# Altium footprint library J 继电器.PcbLib: 24 footprints (part 1 of 2)
Each footprint in its own frame and in the unit in brackets; x right, y up, seen from the top. Pads: shape width x height; smd on the part's side, far side on the other; paste and mask are expansions set on the pad; w line width, h text height; cw(c..) or ccw(c..) is an arc to the next point about the centre after c.
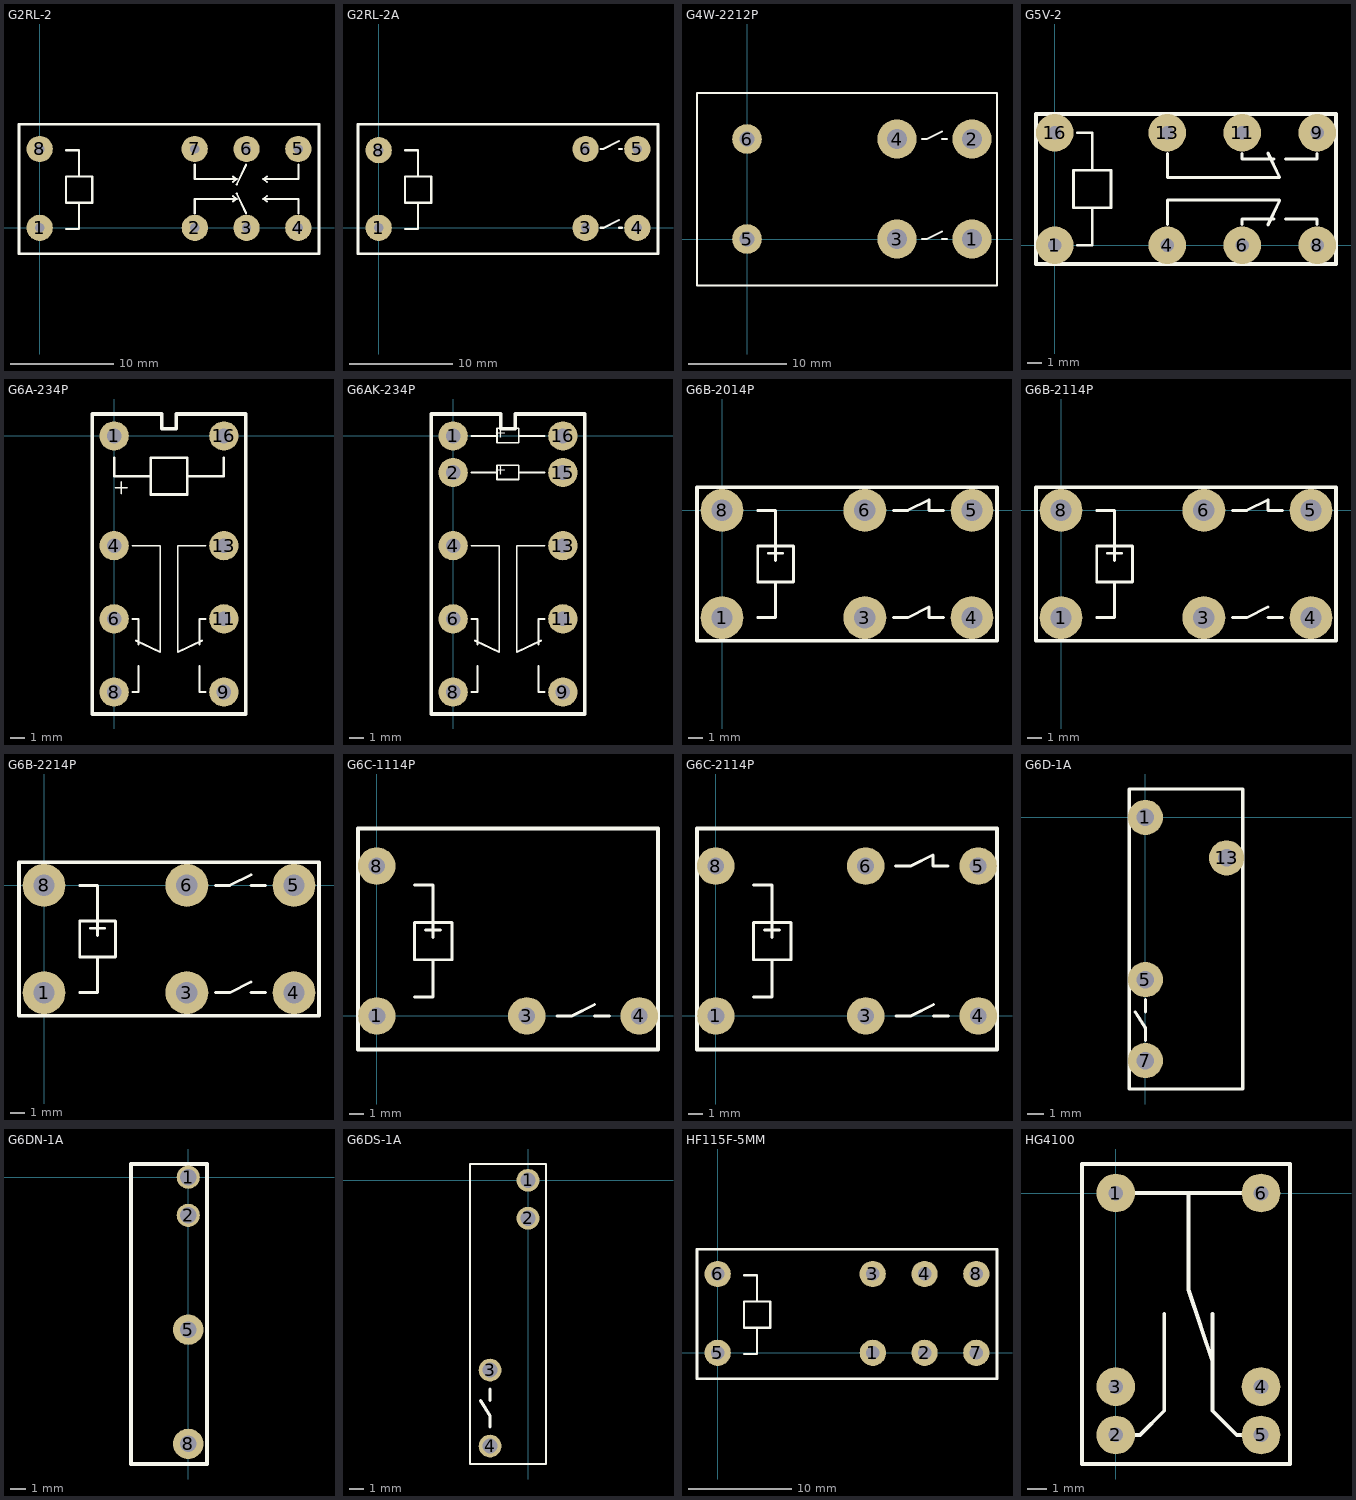
[diagram p0: the footprints below, top view; thin cyan lines are the x and y axes]

## G2RL-2 [mm] "继电器"
height 15.7
pads (8):
  round 2.54 hole 0.9: 1(0,0) 2(15,0) 3(20,0) 4(25,0) 5(25,7.62) 6(20,7.62) 7(14.986,7.62) 8(0,7.62)
Top Overlay:
  lines w0.203: 2.54,-0.12 3.81,-0.12 3.81,2.42 ; 2.54,7.5 3.81,7.5 3.81,4.96 ; 14.986,1.404 14.986,2.801 19.05,2.801 ; 14.986,6.096 14.986,4.699 19.05,4.699 ; 18.669,2.547 19.05,2.801 ; 18.669,3.055 19.05,2.801 ; 18.669,4.445 19.05,4.699 ; 18.669,4.953 19.05,4.699 ; 19.05,3.309 19.939,1.404 ; 19.05,4.191 19.939,6.096 ; 21.971,2.547 21.59,2.801 ; 21.971,3.055 21.59,2.801 ; 21.971,4.445 21.59,4.699 ; 21.971,4.953 21.59,4.699 ; 25.019,1.404 25.019,2.801 21.59,2.801 ; 25.019,6.096 25.019,4.699 21.59,4.699 ; 2.54,2.42 2.54,4.96 5.08,4.96 5.08,2.42 2.54,2.42
  lines w0.254: -2,-2.5 -2,10 27,10 27,-2.5 -2,-2.5
Bottom Overlay:
  lines w0.203: 2.54,-0.12 3.81,-0.12 3.81,2.42 ; 2.54,7.5 3.81,7.5 3.81,4.96 ; 14.986,1.404 14.986,2.801 19.05,2.801 ; 14.986,6.096 14.986,4.699 19.05,4.699 ; 18.669,2.547 19.05,2.801 ; 18.669,3.055 19.05,2.801 ; 18.669,4.445 19.05,4.699 ; 18.669,4.953 19.05,4.699 ; 19.05,3.309 19.939,1.404 ; 19.05,4.191 19.939,6.096 ; 21.971,2.547 21.59,2.801 ; 21.971,3.055 21.59,2.801 ; 21.971,4.445 21.59,4.699 ; 21.971,4.953 21.59,4.699 ; 25.019,1.404 25.019,2.801 21.59,2.801 ; 25.019,6.096 25.019,4.699 21.59,4.699 ; 2.54,2.42 5.08,2.42 5.08,4.96 2.54,4.96 2.54,2.42

## G2RL-2A [mm] "继电器"
height 15.7
pads (6):
  round 2.54 hole 0.9: 1(0,0) 3(20,0) 4(25,0) 5(25,7.62) 6(20,7.62) 8(0,7.5)
Top Overlay:
  lines w0.203: 2.54,-0.12 3.81,-0.12 3.81,2.42 ; 2.54,7.5 3.81,7.5 3.81,4.96 ; 21.463,0 21.717,0 23.241,0.762 ; 21.463,7.62 21.717,7.62 23.241,8.382 ; 23.241,0 23.495,0 ; 23.241,7.62 23.495,7.62 ; 2.54,2.42 2.54,4.96 5.08,4.96 5.08,2.42 2.54,2.42
  lines w0.254: -2,-2.5 27,-2.5 27,10 -2,10 -2,-2.5
Bottom Overlay:
  lines w0.203: 2.54,-0.12 3.81,-0.12 3.81,2.42 ; 2.54,7.5 3.81,7.5 3.81,4.96 ; 21.463,0 21.717,0 23.241,0.762 ; 21.463,7.62 21.717,7.62 23.241,8.382 ; 23.241,0 23.495,0 ; 23.241,7.62 23.495,7.62 ; 2.54,2.42 5.08,2.42 5.08,4.96 2.54,4.96 2.54,2.42

## G4W-2212P [mm] "继电器"
pads (6):
  round 4 hole 2: 1(22.86,0) 2(22.86,10.16) 3(15.24,0) 4(15.24,10.16)
  round 3 hole 1.5: 5(0,0) 6(0,10.16)
Top Overlay:
  lines w0.203: 17.78,0 18.288,0 19.812,0.762 ; 17.78,10.16 18.288,10.16 19.812,10.922 ; 19.812,0 20.32,0 ; 19.812,10.16 20.32,10.16 ; -5.08,-4.699 -5.08,14.859 25.4,14.859 25.4,-4.699 -5.08,-4.699
Bottom Overlay:
  lines w0.203: 17.78,0 18.288,0 19.812,0.762 ; 17.78,10.16 18.288,10.16 19.812,10.922 ; 19.812,0 20.32,0 ; 19.812,10.16 20.32,10.16

## G5V-2 [mil] "继电器"
pads (8):
  round 100 hole 35: 1(0,0) 4(300,0) 6(500,0) 8(700,0) 9(700,300) 11(500,300) 13(300,300) 16(0,300)
Top Overlay:
  lines w7: 60,0 100,0 100,100 ; 60,300 100,300 100,200 ; 50,100 150,100 150,200 50,200 50,100
  lines w8: 300,55.12 300,120 600,120 568.97,54.06 ; 300,244.88 300,180 600,180 568.97,245.94 ; 500,55 500,70 585,70 ; 500,245 500,230 585,230 ; 615,70 700,70 700,55.12 ; 615,230 700,230 700,244.88
  lines w10: -50,-50 750,-50 750,350 -50,350 -50,-50
Bottom Overlay:
  lines w7: 60,0 100,0 100,100 ; 60,300 100,300 100,200 ; 50,100 50,200 150,200 150,100 50,100
  lines w8: 300,55.24 300,120.12 600,120.12 568.97,54.17 ; 300,245 300,180.12 600,180.12 568.97,246.06 ; 500,55.12 500,70.12 585,70.12 ; 500,245.12 500,230.12 585,230.12 ; 615,70.12 700,70.12 700,55.24 ; 615,230.12 700,230.12 700,245

## G6A-234P [mil] "继电器"
pads (8):
  round 80 hole 40: 1(0,0) 4(0,-300) 6(0,-500) 8(0,-700) 9(300,-700) 11(300,-500) 13(300,-300) 16(300,0)
Top Overlay:
  lines w5: 50,-700 66.93,-700 66.93,-629.13 ; 50,-500 66.93,-500 66.93,-570.87 ; 50,-300 125.98,-300 125.98,-590.55 59.06,-559.06 ; 233.07,-629.13 233.07,-700 250,-700 ; 233.07,-570.87 233.07,-500 250,-500 ; 240.94,-559.06 174.02,-590.55 174.02,-300 250,-300 ; 3.94,-141.73 35.43,-141.73 3.94,-141.73 ; 19.68,-157.48 19.68,-125.98 19.68,-157.48
  lines w7: 0,-110 100,-110 0,-110 ; 0,-110 0,-60 0,-110 ; 100,-160 100,-60 ; 100,-160 200,-160 ; 100,-160 100,-60 ; 100,-160 200,-160 ; 100,-60 200,-60 ; 100,-60 200,-60 ; 200,-160 200,-60 ; 200,-160 200,-60 ; 300,-110 200,-110 300,-110 ; 300,-110 300,-60 300,-110
  lines w10: -60,-760 -60,0 -60,60 130,60 130,20 170,20 170,60 360,60 360,-760 -60,-760
Bottom Overlay:
  lines w5: 50,-700 66.93,-700 66.93,-629.13 ; 50,-500 66.93,-500 66.93,-570.87 ; 50,-300 125.98,-300 125.98,-590.55 59.06,-559.06 ; 233.07,-629.13 233.07,-700 250,-700 ; 233.07,-570.87 233.07,-500 250,-500 ; 240.94,-559.06 174.02,-590.55 174.02,-300 250,-300 ; 3.94,-141.73 35.43,-141.73 3.94,-141.73 ; 19.68,-157.48 19.68,-125.98 19.68,-157.48
  lines w7: 0,-110 0,-60 0,-110 ; 0,-110 100,-110 0,-110 ; 100,-160 200,-160 ; 100,-160 100,-60 ; 100,-160 200,-160 ; 100,-160 100,-60 ; 100,-60 200,-60 ; 100,-60 200,-60 ; 200,-160 200,-60 ; 200,-160 200,-60 ; 300,-110 300,-60 300,-110 ; 300,-110 200,-110 300,-110

## G6AK-234P [mil] "继电器"
pads (10):
  round 80 hole 40: 1(0,0) 2(0,-100) 4(0,-300) 6(0,-500) 8(0,-700) 9(300,-700) 11(300,-500) 13(300,-300) 15(300,-100) 16(300,0)
Top Overlay:
  lines w5: 50,-700 66.93,-700 66.93,-629.13 ; 50,-500 66.93,-500 66.93,-570.87 ; 50,-300 125.98,-300 125.98,-590.55 59.06,-559.06 ; 50,-99.69 120.11,-99.69 ; 50,0.32 120.11,0.32 ; 179.17,-99.69 250,-99.69 ; 179.89,0.32 250,0.32 ; 233.07,-629.13 233.07,-700 250,-700 ; 233.07,-570.87 233.07,-500 250,-500 ; 240.94,-559.06 174.02,-590.55 174.02,-300 250,-300 ; 120.11,-119.37 120.11,-80 179.17,-80 179.17,-119.37 120.11,-119.37 ; 120.11,-18.37 179.17,-18.37 179.17,21 120.11,21 120.11,-18.37
  lines w10: -60,-760 360,-760 360,60 170,60 170,20 130,20 130,60 -60,60 -60,0 -60,-760
  text "+" at 146,-115 h50
  text "+" at 146,-14 h50
Bottom Overlay:
  lines w5: 50,-700 66.93,-700 66.93,-629.13 ; 50,-500 66.93,-500 66.93,-570.87 ; 50,-300 125.98,-300 125.98,-590.55 59.06,-559.06 ; 50,-99.69 120.11,-99.69 ; 50,0.32 120.11,0.32 ; 179.17,-99.69 250,-99.69 ; 179.89,0.32 250,0.32 ; 233.07,-629.13 233.07,-700 250,-700 ; 233.07,-570.87 233.07,-500 250,-500 ; 240.94,-559.06 174.02,-590.55 174.02,-300 250,-300 ; 120.11,-119.37 179.17,-119.37 179.17,-80 120.11,-80 120.11,-119.37 ; 120.11,-18.37 120.11,21 179.17,21 179.17,-18.37 120.11,-18.37
  text "+" at 146,-115 h50
  text "+" at 146,-14 h50

## G6B-2014P [mil] "继电器"
height 433.07
pads (6):
  round 120 hole 60: 1(0,-300) 3(400,-300) 4(700,-300) 5(700,0) 6(400,0) 8(0,0)
Top Overlay:
  lines w5: 730,65 770,65
  lines w8: 100,-300 150,-300 150,-200 ; 100,0 150,0 150,-100 150,-140 ; 130,-120 170,-120 ; 480,-300 520,-300 580,-270 580,-300 620,-300 ; 480,0 520,0 580,30 580,0 620,0 ; 100,-200 200,-200 200,-100 100,-100 100,-200
  lines w10: -70,-365 770,-365 770,65 -70,65 -70,-365
Bottom Overlay:
  lines w8: 100,-300 150,-300 150,-200 ; 100,0 150,0 150,-100 150,-140 ; 130,-120 170,-120 ; 480,-300 520,-300 580,-270 580,-300 620,-300 ; 480,0 520,0 580,30 580,0 620,0 ; 100,-200 100,-100 200,-100 200,-200 100,-200

## G6B-2114P [mil] "继电器"
height 433.07
pads (6):
  round 120 hole 60: 1(0,-300) 3(400,-300) 4(700,-300) 5(700,0) 6(400,0) 8(0,0)
Top Overlay:
  lines w5: 730,65 770,65
  lines w8: 100,-300 150,-300 150,-200 ; 100,0 150,0 150,-100 150,-140 ; 130,-120 170,-120 ; 480,-300 520,-300 580,-270 ; 480,0 520,0 580,30 580,0 620,0 ; 580,-300 620,-300 ; 100,-200 100,-100 200,-100 200,-200 100,-200
  lines w10: -70,-365 -70,65 770,65 770,-365 -70,-365
Bottom Overlay:
  lines w8: 100,-300 150,-300 150,-200 ; 100,0 150,0 150,-100 150,-140 ; 130,-120 170,-120 ; 480,-300 520,-300 580,-270 ; 480,0 520,0 580,30 580,0 620,0 ; 580,-300 620,-300 ; 100,-200 200,-200 200,-100 100,-100 100,-200

## G6B-2214P [mil] "继电器"
height 433.07
pads (6):
  round 120 hole 60: 1(0,-300) 3(400,-300) 4(700,-300) 5(700,0) 6(400,0) 8(0,0)
Top Overlay:
  lines w5: 730,65 770,65
  lines w8: 100,-300 150,-300 150,-200 ; 100,0 150,0 150,-100 150,-140 ; 130,-120 170,-120 ; 480,-300 520,-300 580,-270 ; 480,0 520,0 580,30 ; 580,-300 620,-300 ; 580,0 620,0 ; 100,-200 100,-100 200,-100 200,-200 100,-200
  lines w10: -70,-365 -70,65 770,65 770,-365 -70,-365
Bottom Overlay:
  lines w8: 100,-300 150,-300 150,-200 ; 100,0 150,0 150,-100 150,-140 ; 130,-120 170,-120 ; 480,-300 520,-300 580,-270 ; 480,0 520,0 580,30 ; 580,-300 620,-300 ; 580,0 620,0 ; 100,-200 200,-200 200,-100 100,-100 100,-200

## G6C-1114P [mil] "继电器"
height 393.7
pads (4):
  round 100 hole 45: 1(0,0) 3(400,0) 4(700,0) 8(-0.32,400)
Top Overlay:
  lines w8: 100,50 150,50 150,150 ; 100,350 150,350 150,250 150,210 ; 130,230 170,230 ; 480,0 520,0 580,30 ; 580,0 620,0 ; 100,150 100,250 200,250 200,150 100,150
  lines w10: -50,-89.29 -50,500 750,500 750,-89.29 -50,-89.29
Bottom Overlay:
  lines w8: 100,50 150,50 150,150 ; 100,350 150,350 150,250 150,210 ; 130,230 170,230 ; 480,0 520,0 580,30 ; 580,0 620,0 ; 100,150 200,150 200,250 100,250 100,150

## G6C-2114P [mil] "继电器"
height 393.7
pads (6):
  round 100 hole 45: 1(0,0) 3(400,0) 4(700,0) 5(699.68,400) 6(399.69,400) 8(-0.32,400)
Top Overlay:
  lines w8: 100,50 150,50 150,150 ; 100,350 150,350 150,250 150,210 ; 130,230 170,230 ; 479.69,400 519.68,400 579.68,430 579.68,400 619.68,400 ; 480,0 520,0 580,30 ; 580,0 620,0 ; 100,150 200,150 200,250 100,250 100,150
  lines w10: -50,-89.29 750,-89.29 750,500 -50,500 -50,-89.29
Bottom Overlay:
  lines w8: 100,50 150,50 150,150 ; 100,350 150,350 150,250 150,210 ; 130,230 170,230 ; 479.69,400 519.68,400 579.68,430 579.68,400 619.68,400 ; 480,0 520,0 580,30 ; 580,0 620,0 ; 100,150 100,250 200,250 200,150 100,150

## G6D-1A [mm] "继电器"
height 12.5
pads (4):
  round 2.2 hole 1.1: 1(0,0) 5(0,-10.16) 7(0,-15.24) 13(5.08,-2.54)
Top Overlay:
  lines w0.203: -0.635,-12.192 0,-13.208 0,-13.97 ; 0,-12.192 0,-11.43 ; -1.016,-17.018 6.096,-17.018 6.096,1.778 -1.016,1.778 -1.016,-17.018
Bottom Overlay:
  lines w0.203: -0.635,-12.192 0,-13.208 0,-13.97 ; 0,-12.192 0,-11.43

## G6DN-1A [mm]
pads (4):
  round 1.54 hole 1.1: 1(0,0) 2(0,-2.54)
  round 2.032 hole 1.1: 5(0,-10.16) 8(0,-17.78)
Top Overlay:
  lines w0.254: -3.81,-19.12 -3.81,0.88 1.24,0.88 1.24,-19.12 -3.81,-19.12

## G6DS-1A [mil] "继电器"
height 492.13
pads (4):
  round 60 hole 40: 1(0,0) 2(0,-100) 3(-100,-500) 4(-100,-700)
Top Overlay:
  lines w5.91: -152.76,-747.17 47.24,-747.17 47.24,42.83 -152.76,42.83 -152.76,-747.17
  lines w8: -125,-580 -100,-620 -100,-650 ; -100,-580 -100,-550
Bottom Overlay:
  lines w8: -125,-580 -100,-620 -100,-650 ; -100,-580 -100,-550

## HF115F-5MM [mm] "继电器"
height 15.7
pads (8):
  round 2.54 hole 1.3: 1(15,0) 2(20,0) 3(14.986,7.62) 4(20,7.62) 5(0,0) 6(0,7.62) 7(25,0) 8(25,7.62)
Top Overlay:
  lines w0.203: 2.54,-0.12 3.81,-0.12 3.81,2.42 ; 2.54,7.5 3.81,7.5 3.81,4.96 ; 2.54,2.42 5.08,2.42 5.08,4.96 2.54,4.96 2.54,2.42
  lines w0.254: -2,-2.5 27,-2.5 27,10 -2,10 -2,-2.5
Bottom Overlay:
  lines w0.203: 2.54,-0.12 3.81,-0.12 3.81,2.42 ; 2.54,7.5 3.81,7.5 3.81,4.96 ; 2.54,2.42 2.54,4.96 5.08,4.96 5.08,2.42 2.54,2.42

## HG4100 [mil] "继电器"
pads (6):
  round 80 hole 30: 1(0,0) 2(0,-500) 3(0,-400) 4(300,-400) 5(300,-500) 6(300,0)
Top Overlay:
  lines w8: 0,-500 50,-500 100,-450 100,-250 ; 0,0 300,0 ; 150,0 150,-200 200,-350 ; 200,-250 200,-450 250,-500 300,-500 ; -70,-560 -70,60 360,60 360,-560 -70,-560
Bottom Overlay:
  lines w8: 0,-500 50,-500 100,-450 100,-250 ; 0,0 300,0 ; 150,0 150,-200 200,-350 ; 200,-250 200,-450 250,-500 300,-500